# EAGLE library part MCP1642B (library MCP1642B)
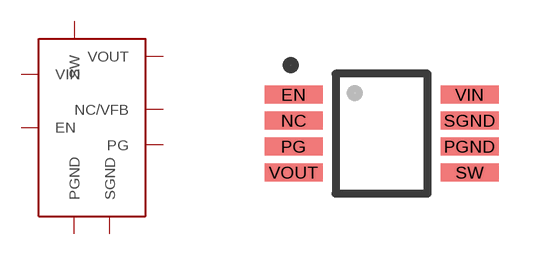
[diagram p0: symbol with the pads of MCP1642B; footprint MCP1642B]

Designator prefix -

## MCP1642B  [MCP1642B]
EN  EN
NC  NC/VFB
PG  PG
PGND  PGND
SGND  SGND
SW  SW
VIN  VIN
VOUT  VOUT

## Footprint MCP1642B (pad centres in mm)
smd 1.45 x 0.45: EN -2.2,0.975; NC -2.2,0.325; PG -2.2,-0.325; PGND 2.2,-0.325; SGND 2.2,0.325; SW 2.2,-0.975; VIN 2.2,0.975; VOUT -2.2,-0.975